# EAGLE library part IMBLE (library MyLibrary)
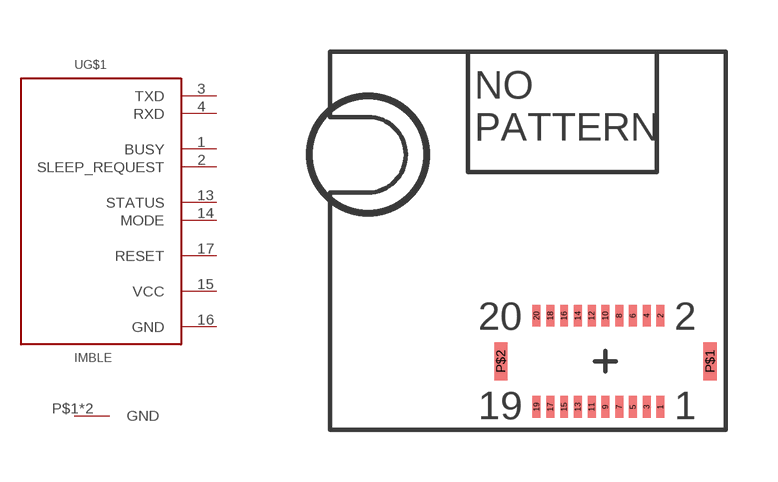
[diagram p27: symbol with the pads of IMBLE_DF37NB-20DS-0.4V; footprint IMBLE_DF37NB-20DS-0.4V]

Designator prefix -; gates G$1=IMBLE G$2=GND

## IMBLE_DF37NB-20DS-0.4V  [IMBLE_DF37NB-20DS-0.4V]
1  G$1:BUSY
2  G$1:SLEEP_REQUEST
3  G$1:TXD
4  G$1:RXD
13  G$1:STATUS
14  G$1:MODE
15  G$1:VCC
16  G$1:GND
17  G$1:RESET
P$1  G$2:GND
P$2  G$2:GND

## Footprint IMBLE_DF37NB-20DS-0.4V (pad centres in mm)
smd 0.23 x 0.63: 1 9.6,0.675; 2 9.6,3.325; 3 9.2,0.675; 4 9.2,3.325; 5 8.8,0.675; 6 8.8,3.325; 7 8.4,0.675; 8 8.4,3.325; 9 8,0.675; 10 8,3.325; 11 7.6,0.675; 12 7.6,3.325; 13 7.2,0.675; 14 7.2,3.325; 15 6.8,0.675; 16 6.8,3.325; 17 6.4,0.675; 18 6.4,3.325; 19 6,0.675; 20 6,3.325
smd 0.38 x 1.1: P$1 11.04,2; P$2 4.96,2